# EAGLE library part 55917-26 (library con-molex-2)
DIP connector 2mm 26 way
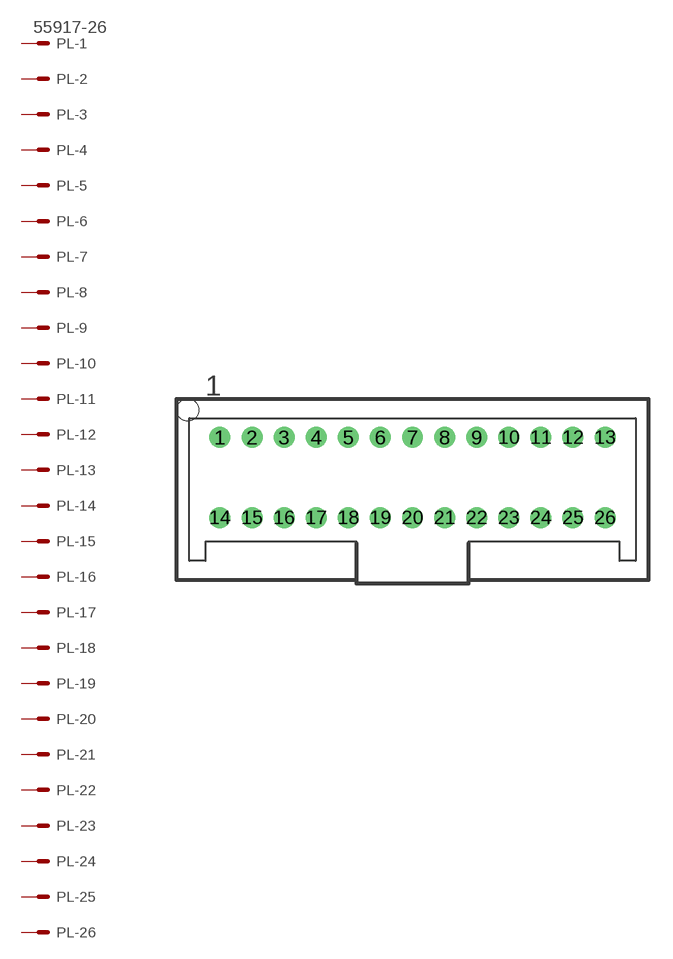
[diagram p19: symbol with the pads of 55917-26; footprint 55917-26]

Designator prefix PL; gates -1=MV -2=M -3=M -4=M -5=M -6=M -7=M -8=M -9=M -10=M -11=M -12=M -13=M -14=M -15=M -16=M -17=M -18=M -19=M -20=M -21=M -22=M -23=M -24=M -25=M -26=M

## 55917-26  [55917-26]
1  -1:S  pas
2  -2:S  pas
3  -3:S  pas
4  -4:S  pas
5  -5:S  pas
6  -6:S  pas
7  -7:S  pas
8  -8:S  pas
9  -9:S  pas
10  -10:S  pas
11  -11:S  pas
12  -12:S  pas
13  -13:S  pas
14  -14:S  pas
15  -15:S  pas
16  -16:S  pas
17  -17:S  pas
18  -18:S  pas
19  -19:S  pas
20  -20:S  pas
21  -21:S  pas
22  -22:S  pas
23  -23:S  pas
24  -24:S  pas
25  -25:S  pas
26  -26:S  pas

## Footprint 55917-26 (pad centres in mm)
DIP connector 2mm 26 way
drill 0.8: 1 -12,2.5; 2 -10,2.5; 3 -8,2.5; 4 -6,2.5; 5 -4,2.5; 6 -2,2.5; 7 0,2.5; 8 2,2.5; 9 4,2.5; 10 6,2.5; 11 8,2.5; 12 10,2.5; 13 12,2.5; 14 -12,-2.5; 15 -10,-2.5; 16 -8,-2.5; 17 -6,-2.5; 18 -4,-2.5; 19 -2,-2.5; 20 0,-2.5; 21 2,-2.5; 22 4,-2.5; 23 6,-2.5; 24 8,-2.5; 25 10,-2.5; 26 12,-2.5
hole 1.35 at -14,4.2